# Altium footprint library LPS4018.PcbLib: 1 footprints
Each footprint in its own frame and in the unit in brackets; x right, y up, seen from the top. Pads: shape width x height; smd on the part's side, far side on the other; paste and mask are expansions set on the pad; w line width, h text height; cw(c..) or ccw(c..) is an arc to the next point about the centre after c.
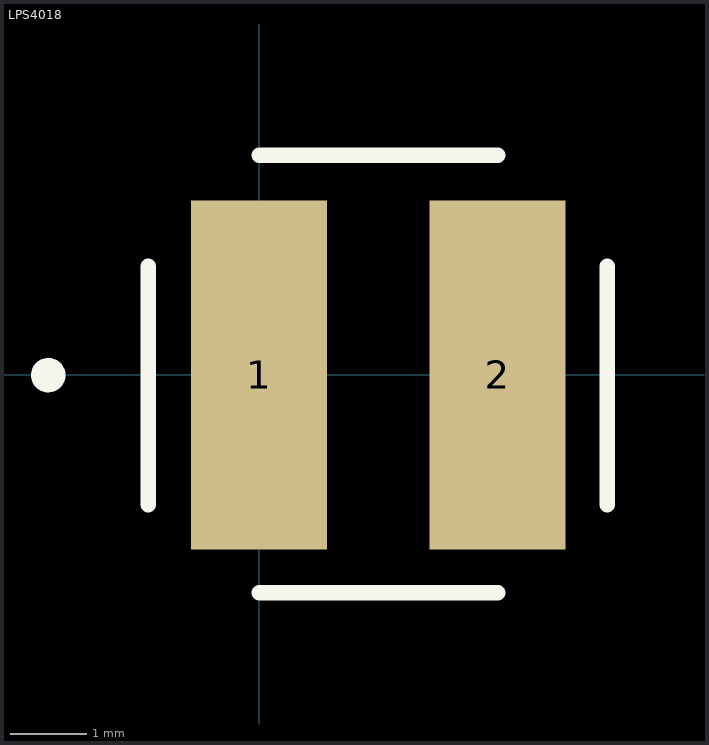
[diagram p0: the footprint, top view; thin cyan lines are the x and y axes]

## LPS4018 [mil]
pads (2):
  rect 70x180 smd: 1(0,0) 2(123,0)
Top Overlay:
  circle w5: c-108.8,-0.16 r1.66
  circle w5: c-108.67,-0.16 r6.42
  lines w8: -57.15,-66.91 -57.15,56.09 ; 0.06,-112.31 123.06,-112.31 ; 0.06,113.21 123.06,113.21 ; 179.58,-66.97 179.58,56.03
3D body: height 71.47, standoff 0.6, extent -20.82,-80.82 140.84,80.83